# EAGLE library part SCREW_TERMINAL_X7_ACDC (library screw_terminal_x7_acin_acout_dcout)
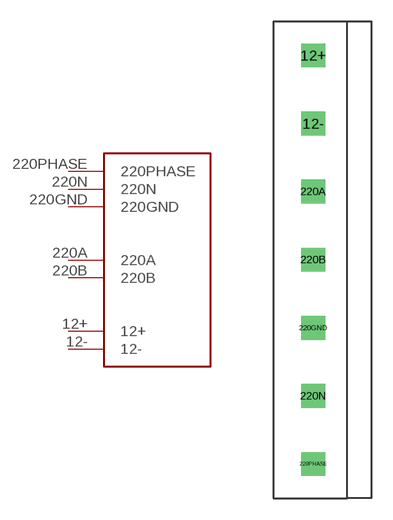
[diagram p0: symbol with the pads of SCREW_TERMINAL; footprint SCREW_TERMINAL]

Designator prefix -

## SCREW_TERMINAL_X7_ACDCTHROUGH_HOLE  [SCREW_TERMINAL]
12+  12+
12-  12-
220A  220A
220B  220B
220GND  220GND
220N  220N
220PHASE  220PHASE

## Footprint SCREW_TERMINAL (pad centres in mm)
drill 0.8 pad 1.676 square: 12+ -0.29,15.45; 12- -0.29,10.65; 220A -0.29,5.85; 220B -0.29,1.05; 220GND -0.29,-3.75; 220N -0.29,-8.55; 220PHASE -0.29,-13.35